# EAGLE library part MX34016SF1 (library MX34016SF1)
16-pin female autmotive connector.
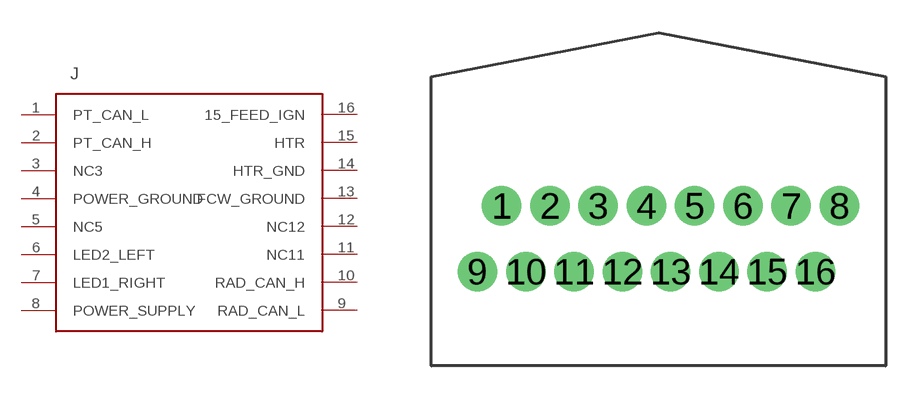
[diagram p0: symbol with the pads of MX34016SF1; footprint MX34016SF1]

Designator prefix J

## MX34016SF1  [MX34016SF1]
1  PT_CAN_L
2  PT_CAN_H
3  NC3  nc
4  POWER_GROUND
5  NC5  nc
6  LED2_LEFT
7  LED1_RIGHT
8  POWER_SUPPLY  pwr
9  RAD_CAN_L
10  RAD_CAN_H
11  NC11  nc
12  NC12  nc
13  FCW_GROUND
14  HTR_GND
15  HTR
16  15_FEED_IGN

## Footprint MX34016SF1 (pad centres in mm)
drill 1.2: 1 -7.15,6.1; 2 -4.95,6.1; 3 -2.75,6.1; 4 -0.55,6.1; 5 1.65,6.1; 6 3.85,6.1; 7 6.05,6.1; 8 8.25,6.1; 9 -8.25,3.1; 10 -6.05,3.1; 11 -3.85,3.1; 12 -1.65,3.1; 13 0.55,3.1; 14 2.75,3.1; 15 4.95,3.1; 16 7.15,3.1